# Altium schematic symbol library MCP9701.SchLib: 1 symbol
Pins are listed as number, name and electrical type; pins without a type are passive.

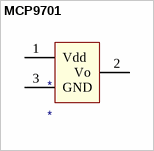
[diagram p0: symbol MCP9701]

## MCP9701
designator *
pins: 1 Vdd, 2 Vo, 3 GND